# Altium footprint library Connector_JAE_WP7B.PcbLib: 20 footprints (part 1 of 2)
Each footprint in its own frame and in the unit in brackets; x right, y up, seen from the top. Pads: shape width x height; smd on the part's side, far side on the other; paste and mask are expansions set on the pad; w line width, h text height; cw(c..) or ccw(c..) is an arc to the next point about the centre after c.
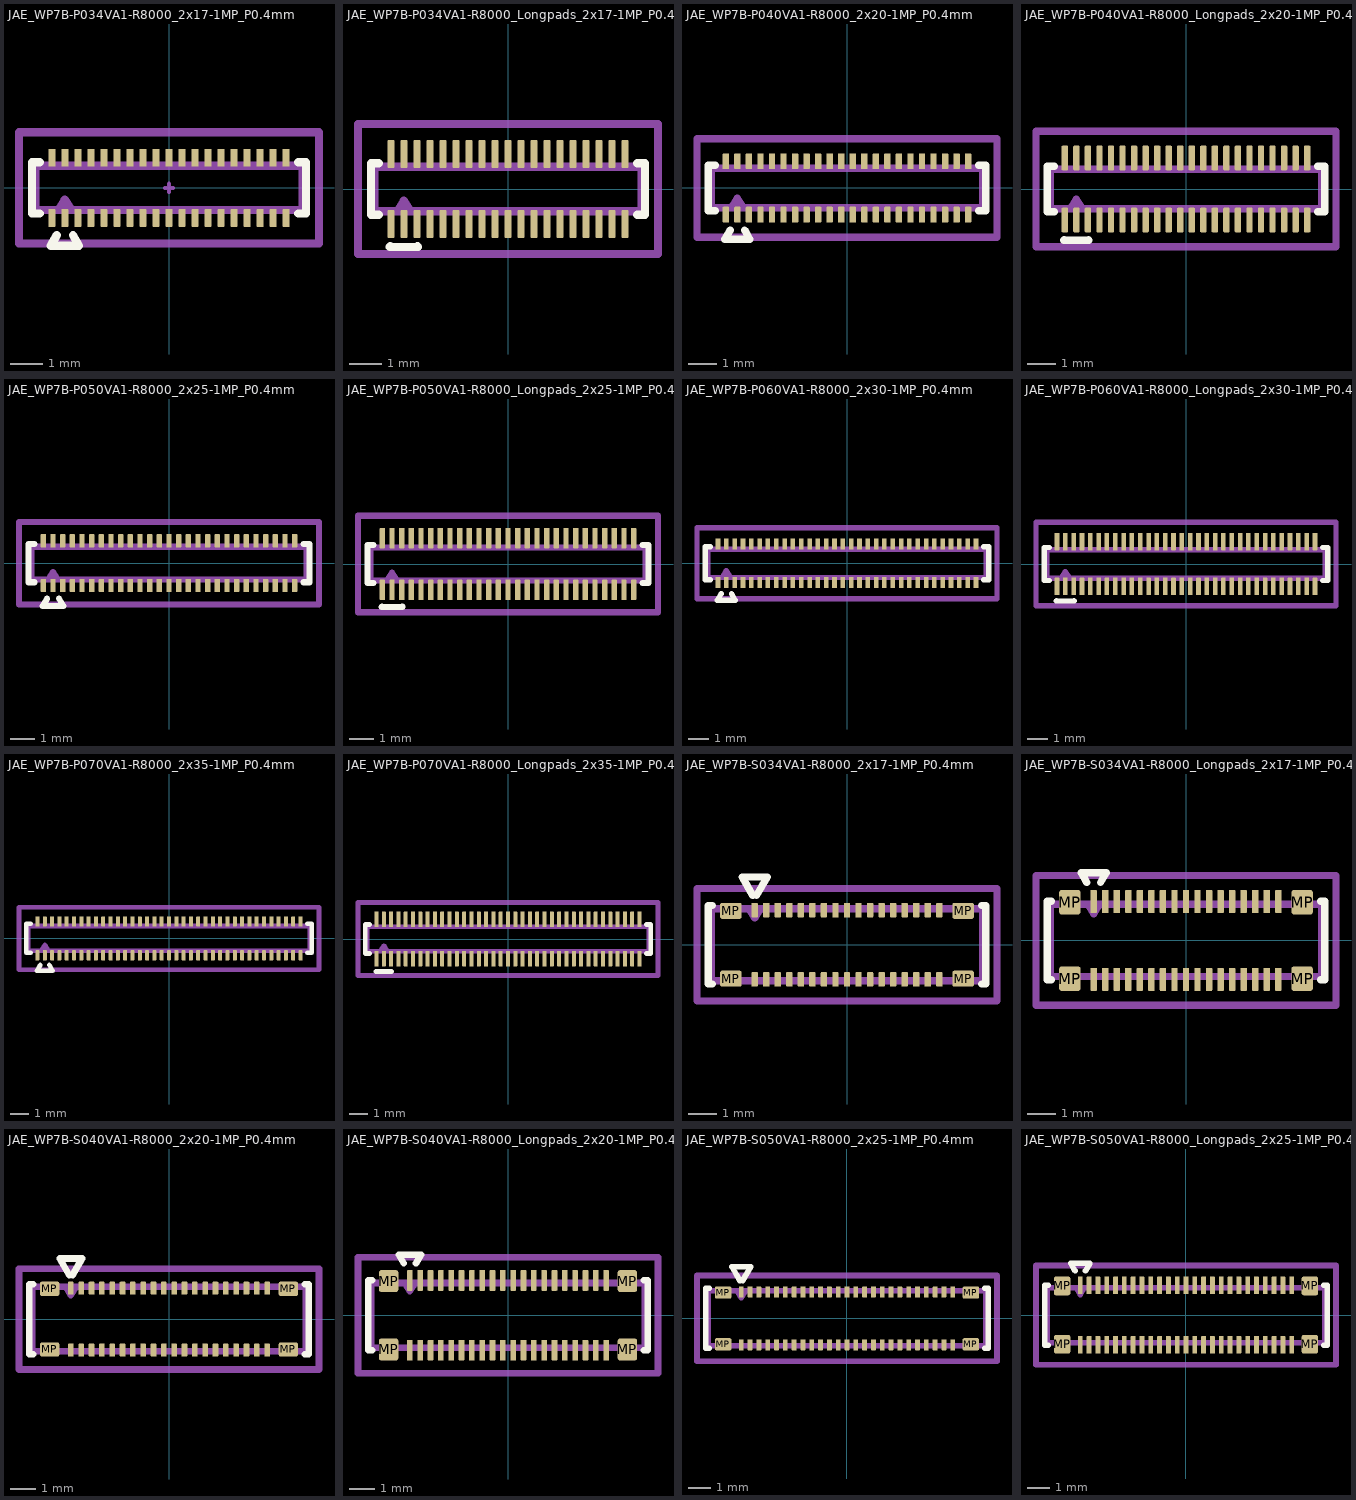
[diagram p0: the footprints below, top view; thin cyan lines are the x and y axes]

## JAE_WP7B-P034VA1-R8000_2x17-1MP_P0.4mm [mm]
pads (38):
  rrect25% 0.22x0.55 smd: 1(-3.2,-0.925) 2(-3.2,0.925) 3(-2.8,-0.925) 4(-2.8,0.925) 5(-2.4,-0.925) 6(-2.4,0.925) 7(-2,-0.925) 8(-2,0.925) 9(-1.6,-0.925) 10(-1.6,0.925) 11(-1.2,-0.925) 12(-1.2,0.925) 13(-0.8,-0.925) 14(-0.8,0.925) 15(-0.4,-0.925) 16(-0.4,0.925) 17(0,-0.925) 18(0,0.925) 19(0.4,-0.925) 20(0.4,0.925) 21(0.8,-0.925) 22(0.8,0.925) 23(1.2,-0.925) 24(1.2,0.925) 25(1.6,-0.925) 26(1.6,0.925) 27(2,-0.925) 28(2,0.925) 29(2.4,-0.925) 30(2.4,0.925) 31(2.8,-0.925) 32(2.8,0.925) 33(3.2,-0.925) 34(3.2,0.925) MP(-3.6,-0.925) MP(-3.6,0.925) MP(3.6,-0.925) MP(3.6,0.925)
F.SilkS:
  lines w0.254: -3.97,-0.79 -4.21,-0.79 -4.21,0.79 -3.97,0.79 ; -3.448,-1.46 -3.633,-1.78 -2.767,-1.78 -2.952,-1.46 ; 3.97,-0.79 4.21,-0.79 4.21,0.79 3.97,0.79
Top Component Center:
  lines w0.127: -0.127,0 0.127,0 ; 0,-0.127 0,0.127
Top Assembly:
  lines w0.254: -3.4,-0.68 -3.2,-0.36 -3,-0.68 ; -4.1,-0.68 4.1,-0.68 4.1,0.68 -4.1,0.68 -4.1,-0.68
  text "'.Designator'" at -4.047,-0.84 h1
Top Courtyard:
  lines w0.254: -4.61,-1.71 4.61,-1.71 4.61,1.71 -4.61,1.71 -4.61,-1.71
Top Designator:
  text ".Designator" at -7.618,-0.543 h1.52

## JAE_WP7B-P034VA1-R8000_Longpads_2x17-1MP_P0.4mm [mm]
pads (38):
  rrect25% 0.22x0.85 smd: 1(-3.2,-1.075) 2(-3.2,1.075) 3(-2.8,-1.075) 4(-2.8,1.075) 5(-2.4,-1.075) 6(-2.4,1.075) 7(-2,-1.075) 8(-2,1.075) 9(-1.6,-1.075) 10(-1.6,1.075) 11(-1.2,-1.075) 12(-1.2,1.075) 13(-0.8,-1.075) 14(-0.8,1.075) 15(-0.4,-1.075) 16(-0.4,1.075) 17(0,-1.075) 18(0,1.075) 19(0.4,-1.075) 20(0.4,1.075) 21(0.8,-1.075) 22(0.8,1.075) 23(1.2,-1.075) 24(1.2,1.075) 25(1.6,-1.075) 26(1.6,1.075) 27(2,-1.075) 28(2,1.075) 29(2.4,-1.075) 30(2.4,1.075) 31(2.8,-1.075) 32(2.8,1.075) 33(3.2,-1.075) 34(3.2,1.075) MP(-3.6,-1.075) MP(-3.6,1.075) MP(3.6,-1.075) MP(3.6,1.075)
F.SilkS:
  lines w0.254: -3.97,-0.79 -4.21,-0.79 -4.21,0.79 -3.97,0.79 ; -3.621,-1.76 -3.633,-1.78 -2.767,-1.78 -2.779,-1.76 ; 3.97,-0.79 4.21,-0.79 4.21,0.79 3.97,0.79
Top Assembly:
  lines w0.254: -3.4,-0.68 -3.2,-0.36 -3,-0.68 ; -4.1,-0.68 4.1,-0.68 4.1,0.68 -4.1,0.68 -4.1,-0.68
  text "'.Designator'" at -4.047,-0.84 h1
Top Courtyard:
  lines w0.254: -4.61,-2 4.61,-2 4.61,2 -4.61,2 -4.61,-2
Top Designator:
  text ".Designator" at -7.618,-0.508 h1.52

## JAE_WP7B-P040VA1-R8000_2x20-1MP_P0.4mm [mm]
pads (44):
  rrect25% 0.22x0.55 smd: 1(-3.8,-0.925) 2(-3.8,0.925) 3(-3.4,-0.925) 4(-3.4,0.925) 5(-3,-0.925) 6(-3,0.925) 7(-2.6,-0.925) 8(-2.6,0.925) 9(-2.2,-0.925) 10(-2.2,0.925) 11(-1.8,-0.925) 12(-1.8,0.925) 13(-1.4,-0.925) 14(-1.4,0.925) 15(-1,-0.925) 16(-1,0.925) 17(-0.6,-0.925) 18(-0.6,0.925) 19(-0.2,-0.925) 20(-0.2,0.925) 21(0.2,-0.925) 22(0.2,0.925) 23(0.6,-0.925) 24(0.6,0.925) 25(1,-0.925) 26(1,0.925) 27(1.4,-0.925) 28(1.4,0.925) 29(1.8,-0.925) 30(1.8,0.925) 31(2.2,-0.925) 32(2.2,0.925) 33(2.6,-0.925) 34(2.6,0.925) 35(3,-0.925) 36(3,0.925) 37(3.4,-0.925) 38(3.4,0.925) 39(3.8,-0.925) 40(3.8,0.925) MP(-4.2,-0.925) MP(-4.2,0.925) MP(4.2,-0.925) MP(4.2,0.925)
F.SilkS:
  lines w0.254: -4.57,-0.79 -4.81,-0.79 -4.81,0.79 -4.57,0.79 ; -4.048,-1.46 -4.233,-1.78 -3.367,-1.78 -3.552,-1.46 ; 4.57,-0.79 4.81,-0.79 4.81,0.79 4.57,0.79
Top Assembly:
  lines w0.254: -4,-0.68 -3.8,-0.36 -3.6,-0.68 ; -4.7,-0.68 4.7,-0.68 4.7,0.68 -4.7,0.68 -4.7,-0.68
  text "'.Designator'" at -4.047,-0.84 h1
Top Courtyard:
  lines w0.254: -5.2,-1.71 5.2,-1.71 5.2,1.71 -5.2,1.71 -5.2,-1.71
Top Designator:
  text ".Designator" at -7.618,-0.543 h1.52

## JAE_WP7B-P040VA1-R8000_Longpads_2x20-1MP_P0.4mm [mm]
pads (44):
  rrect25% 0.22x0.85 smd: 1(-3.8,-1.075) 2(-3.8,1.075) 3(-3.4,-1.075) 4(-3.4,1.075) 5(-3,-1.075) 6(-3,1.075) 7(-2.6,-1.075) 8(-2.6,1.075) 9(-2.2,-1.075) 10(-2.2,1.075) 11(-1.8,-1.075) 12(-1.8,1.075) 13(-1.4,-1.075) 14(-1.4,1.075) 15(-1,-1.075) 16(-1,1.075) 17(-0.6,-1.075) 18(-0.6,1.075) 19(-0.2,-1.075) 20(-0.2,1.075) 21(0.2,-1.075) 22(0.2,1.075) 23(0.6,-1.075) 24(0.6,1.075) 25(1,-1.075) 26(1,1.075) 27(1.4,-1.075) 28(1.4,1.075) 29(1.8,-1.075) 30(1.8,1.075) 31(2.2,-1.075) 32(2.2,1.075) 33(2.6,-1.075) 34(2.6,1.075) 35(3,-1.075) 36(3,1.075) 37(3.4,-1.075) 38(3.4,1.075) 39(3.8,-1.075) 40(3.8,1.075) MP(-4.2,-1.075) MP(-4.2,1.075) MP(4.2,-1.075) MP(4.2,1.075)
F.SilkS:
  lines w0.254: -4.57,-0.79 -4.81,-0.79 -4.81,0.79 -4.57,0.79 ; -4.221,-1.76 -4.233,-1.78 -3.367,-1.78 -3.379,-1.76 ; 4.57,-0.79 4.81,-0.79 4.81,0.79 4.57,0.79
Top Assembly:
  lines w0.254: -4,-0.68 -3.8,-0.36 -3.6,-0.68 ; -4.7,-0.68 4.7,-0.68 4.7,0.68 -4.7,0.68 -4.7,-0.68
  text "'.Designator'" at -4.047,-0.84 h1
Top Courtyard:
  lines w0.254: -5.2,-2 5.2,-2 5.2,2 -5.2,2 -5.2,-2
Top Designator:
  text ".Designator" at -7.618,-0.508 h1.52

## JAE_WP7B-P050VA1-R8000_2x25-1MP_P0.4mm [mm]
pads (54):
  rrect25% 0.22x0.55 smd: 1(-4.8,-0.925) 2(-4.8,0.925) 3(-4.4,-0.925) 4(-4.4,0.925) 5(-4,-0.925) 6(-4,0.925) 7(-3.6,-0.925) 8(-3.6,0.925) 9(-3.2,-0.925) 10(-3.2,0.925) 11(-2.8,-0.925) 12(-2.8,0.925) 13(-2.4,-0.925) 14(-2.4,0.925) 15(-2,-0.925) 16(-2,0.925) 17(-1.6,-0.925) 18(-1.6,0.925) 19(-1.2,-0.925) 20(-1.2,0.925) 21(-0.8,-0.925) 22(-0.8,0.925) 23(-0.4,-0.925) 24(-0.4,0.925) 25(0,-0.925) 26(0,0.925) 27(0.4,-0.925) 28(0.4,0.925) 29(0.8,-0.925) 30(0.8,0.925) 31(1.2,-0.925) 32(1.2,0.925) 33(1.6,-0.925) 34(1.6,0.925) 35(2,-0.925) 36(2,0.925) 37(2.4,-0.925) 38(2.4,0.925) 39(2.8,-0.925) 40(2.8,0.925) 41(3.2,-0.925) 42(3.2,0.925) 43(3.6,-0.925) 44(3.6,0.925) 45(4,-0.925) 46(4,0.925) 47(4.4,-0.925) 48(4.4,0.925) 49(4.8,-0.925) 50(4.8,0.925) MP(-5.2,-0.925) MP(-5.2,0.925) MP(5.2,-0.925) MP(5.2,0.925)
F.SilkS:
  lines w0.254: -5.57,-0.79 -5.81,-0.79 -5.81,0.79 -5.57,0.79 ; -5.048,-1.46 -5.233,-1.78 -4.367,-1.78 -4.552,-1.46 ; 5.57,-0.79 5.81,-0.79 5.81,0.79 5.57,0.79
Top Assembly:
  lines w0.254: -5,-0.68 -4.8,-0.36 -4.6,-0.68 ; -5.7,-0.68 5.7,-0.68 5.7,0.68 -5.7,0.68 -5.7,-0.68
  text "'.Designator'" at -4.047,-0.84 h1
Top Courtyard:
  lines w0.254: -6.21,-1.71 6.21,-1.71 6.21,1.71 -6.21,1.71 -6.21,-1.71
Top Designator:
  text ".Designator" at -7.618,-0.543 h1.52

## JAE_WP7B-P050VA1-R8000_Longpads_2x25-1MP_P0.4mm [mm]
pads (54):
  rrect25% 0.22x0.85 smd: 1(-4.8,-1.075) 2(-4.8,1.075) 3(-4.4,-1.075) 4(-4.4,1.075) 5(-4,-1.075) 6(-4,1.075) 7(-3.6,-1.075) 8(-3.6,1.075) 9(-3.2,-1.075) 10(-3.2,1.075) 11(-2.8,-1.075) 12(-2.8,1.075) 13(-2.4,-1.075) 14(-2.4,1.075) 15(-2,-1.075) 16(-2,1.075) 17(-1.6,-1.075) 18(-1.6,1.075) 19(-1.2,-1.075) 20(-1.2,1.075) 21(-0.8,-1.075) 22(-0.8,1.075) 23(-0.4,-1.075) 24(-0.4,1.075) 25(0,-1.075) 26(0,1.075) 27(0.4,-1.075) 28(0.4,1.075) 29(0.8,-1.075) 30(0.8,1.075) 31(1.2,-1.075) 32(1.2,1.075) 33(1.6,-1.075) 34(1.6,1.075) 35(2,-1.075) 36(2,1.075) 37(2.4,-1.075) 38(2.4,1.075) 39(2.8,-1.075) 40(2.8,1.075) 41(3.2,-1.075) 42(3.2,1.075) 43(3.6,-1.075) 44(3.6,1.075) 45(4,-1.075) 46(4,1.075) 47(4.4,-1.075) 48(4.4,1.075) 49(4.8,-1.075) 50(4.8,1.075) MP(-5.2,-1.075) MP(-5.2,1.075) MP(5.2,-1.075) MP(5.2,1.075)
F.SilkS:
  lines w0.254: -5.57,-0.79 -5.81,-0.79 -5.81,0.79 -5.57,0.79 ; -5.221,-1.76 -5.233,-1.78 -4.367,-1.78 -4.379,-1.76 ; 5.57,-0.79 5.81,-0.79 5.81,0.79 5.57,0.79
Top Assembly:
  lines w0.254: -5,-0.68 -4.8,-0.36 -4.6,-0.68 ; -5.7,-0.68 5.7,-0.68 5.7,0.68 -5.7,0.68 -5.7,-0.68
  text "'.Designator'" at -4.047,-0.84 h1
Top Courtyard:
  lines w0.254: -6.21,-2 6.21,-2 6.21,2 -6.21,2 -6.21,-2
Top Designator:
  text ".Designator" at -7.618,-0.508 h1.52

## JAE_WP7B-P060VA1-R8000_2x30-1MP_P0.4mm [mm]
pads (64):
  rrect25% 0.22x0.55 smd: 1(-5.8,-0.925) 2(-5.8,0.925) 3(-5.4,-0.925) 4(-5.4,0.925) 5(-5,-0.925) 6(-5,0.925) 7(-4.6,-0.925) 8(-4.6,0.925) 9(-4.2,-0.925) 10(-4.2,0.925) 11(-3.8,-0.925) 12(-3.8,0.925) 13(-3.4,-0.925) 14(-3.4,0.925) 15(-3,-0.925) 16(-3,0.925) 17(-2.6,-0.925) 18(-2.6,0.925) 19(-2.2,-0.925) 20(-2.2,0.925) 21(-1.8,-0.925) 22(-1.8,0.925) 23(-1.4,-0.925) 24(-1.4,0.925) 25(-1,-0.925) 26(-1,0.925) 27(-0.6,-0.925) 28(-0.6,0.925) 29(-0.2,-0.925) 30(-0.2,0.925) 31(0.2,-0.925) 32(0.2,0.925) 33(0.6,-0.925) 34(0.6,0.925) 35(1,-0.925) 36(1,0.925) 37(1.4,-0.925) 38(1.4,0.925) 39(1.8,-0.925) 40(1.8,0.925) 41(2.2,-0.925) 42(2.2,0.925) 43(2.6,-0.925) 44(2.6,0.925) 45(3,-0.925) 46(3,0.925) 47(3.4,-0.925) 48(3.4,0.925) 49(3.8,-0.925) 50(3.8,0.925) 51(4.2,-0.925) 52(4.2,0.925) 53(4.6,-0.925) 54(4.6,0.925) 55(5,-0.925) 56(5,0.925) 57(5.4,-0.925) 58(5.4,0.925) 59(5.8,-0.925) 60(5.8,0.925) MP(-6.2,-0.925) MP(-6.2,0.925) MP(6.2,-0.925) MP(6.2,0.925)
F.SilkS:
  lines w0.254: -6.57,-0.79 -6.81,-0.79 -6.81,0.79 -6.57,0.79 ; -6.048,-1.46 -6.233,-1.78 -5.367,-1.78 -5.552,-1.46 ; 6.57,-0.79 6.81,-0.79 6.81,0.79 6.57,0.79
Top Assembly:
  lines w0.254: -6,-0.68 -5.8,-0.36 -5.6,-0.68 ; -6.7,-0.68 6.7,-0.68 6.7,0.68 -6.7,0.68 -6.7,-0.68
  text "'.Designator'" at -4.047,-0.84 h1
Top Courtyard:
  lines w0.254: -7.21,-1.71 7.21,-1.71 7.21,1.71 -7.21,1.71 -7.21,-1.71
Top Designator:
  text ".Designator" at -7.618,-0.543 h1.52

## JAE_WP7B-P060VA1-R8000_Longpads_2x30-1MP_P0.4mm [mm]
pads (64):
  rrect25% 0.22x0.85 smd: 1(-5.8,-1.075) 2(-5.8,1.075) 3(-5.4,-1.075) 4(-5.4,1.075) 5(-5,-1.075) 6(-5,1.075) 7(-4.6,-1.075) 8(-4.6,1.075) 9(-4.2,-1.075) 10(-4.2,1.075) 11(-3.8,-1.075) 12(-3.8,1.075) 13(-3.4,-1.075) 14(-3.4,1.075) 15(-3,-1.075) 16(-3,1.075) 17(-2.6,-1.075) 18(-2.6,1.075) 19(-2.2,-1.075) 20(-2.2,1.075) 21(-1.8,-1.075) 22(-1.8,1.075) 23(-1.4,-1.075) 24(-1.4,1.075) 25(-1,-1.075) 26(-1,1.075) 27(-0.6,-1.075) 28(-0.6,1.075) 29(-0.2,-1.075) 30(-0.2,1.075) 31(0.2,-1.075) 32(0.2,1.075) 33(0.6,-1.075) 34(0.6,1.075) 35(1,-1.075) 36(1,1.075) 37(1.4,-1.075) 38(1.4,1.075) 39(1.8,-1.075) 40(1.8,1.075) 41(2.2,-1.075) 42(2.2,1.075) 43(2.6,-1.075) 44(2.6,1.075) 45(3,-1.075) 46(3,1.075) 47(3.4,-1.075) 48(3.4,1.075) 49(3.8,-1.075) 50(3.8,1.075) 51(4.2,-1.075) 52(4.2,1.075) 53(4.6,-1.075) 54(4.6,1.075) 55(5,-1.075) 56(5,1.075) 57(5.4,-1.075) 58(5.4,1.075) 59(5.8,-1.075) 60(5.8,1.075) MP(-6.2,-1.075) MP(-6.2,1.075) MP(6.2,-1.075) MP(6.2,1.075)
F.SilkS:
  lines w0.254: -6.57,-0.79 -6.81,-0.79 -6.81,0.79 -6.57,0.79 ; -6.221,-1.76 -6.233,-1.78 -5.367,-1.78 -5.379,-1.76 ; 6.57,-0.79 6.81,-0.79 6.81,0.79 6.57,0.79
Top Assembly:
  lines w0.254: -6,-0.68 -5.8,-0.36 -5.6,-0.68 ; -6.7,-0.68 6.7,-0.68 6.7,0.68 -6.7,0.68 -6.7,-0.68
  text "'.Designator'" at -4.047,-0.84 h1
Top Courtyard:
  lines w0.254: -7.21,-2 7.21,-2 7.21,2 -7.21,2 -7.21,-2
Top Designator:
  text ".Designator" at -7.618,-0.508 h1.52

## JAE_WP7B-P070VA1-R8000_2x35-1MP_P0.4mm [mm]
pads (74):
  rrect25% 0.22x0.55 smd: 1(-6.8,-0.925) 2(-6.8,0.925) 3(-6.4,-0.925) 4(-6.4,0.925) 5(-6,-0.925) 6(-6,0.925) 7(-5.6,-0.925) 8(-5.6,0.925) 9(-5.2,-0.925) 10(-5.2,0.925) 11(-4.8,-0.925) 12(-4.8,0.925) 13(-4.4,-0.925) 14(-4.4,0.925) 15(-4,-0.925) 16(-4,0.925) 17(-3.6,-0.925) 18(-3.6,0.925) 19(-3.2,-0.925) 20(-3.2,0.925) 21(-2.8,-0.925) 22(-2.8,0.925) 23(-2.4,-0.925) 24(-2.4,0.925) 25(-2,-0.925) 26(-2,0.925) 27(-1.6,-0.925) 28(-1.6,0.925) 29(-1.2,-0.925) 30(-1.2,0.925) 31(-0.8,-0.925) 32(-0.8,0.925) 33(-0.4,-0.925) 34(-0.4,0.925) 35(0,-0.925) 36(0,0.925) 37(0.4,-0.925) 38(0.4,0.925) 39(0.8,-0.925) 40(0.8,0.925) 41(1.2,-0.925) 42(1.2,0.925) 43(1.6,-0.925) 44(1.6,0.925) 45(2,-0.925) 46(2,0.925) 47(2.4,-0.925) 48(2.4,0.925) 49(2.8,-0.925) 50(2.8,0.925) 51(3.2,-0.925) 52(3.2,0.925) 53(3.6,-0.925) 54(3.6,0.925) 55(4,-0.925) 56(4,0.925) 57(4.4,-0.925) 58(4.4,0.925) 59(4.8,-0.925) 60(4.8,0.925) 61(5.2,-0.925) 62(5.2,0.925) 63(5.6,-0.925) 64(5.6,0.925) 65(6,-0.925) 66(6,0.925) 67(6.4,-0.925) 68(6.4,0.925) 69(6.8,-0.925) 70(6.8,0.925) MP(-7.2,-0.925) MP(-7.2,0.925) MP(7.2,-0.925) MP(7.2,0.925)
F.SilkS:
  lines w0.254: -7.57,-0.79 -7.81,-0.79 -7.81,0.79 -7.57,0.79 ; -7.048,-1.46 -7.233,-1.78 -6.367,-1.78 -6.552,-1.46 ; 7.57,-0.79 7.81,-0.79 7.81,0.79 7.57,0.79
Top Assembly:
  lines w0.254: -7,-0.68 -6.8,-0.36 -6.6,-0.68 ; -7.7,-0.68 7.7,-0.68 7.7,0.68 -7.7,0.68 -7.7,-0.68
  text "'.Designator'" at -4.047,-0.84 h1
Top Courtyard:
  lines w0.254: -8.21,-1.71 8.21,-1.71 8.21,1.71 -8.21,1.71 -8.21,-1.71
Top Designator:
  text ".Designator" at -7.618,-0.543 h1.52

## JAE_WP7B-P070VA1-R8000_Longpads_2x35-1MP_P0.4mm [mm]
pads (74):
  rrect25% 0.22x0.85 smd: 1(-6.8,-1.075) 2(-6.8,1.075) 3(-6.4,-1.075) 4(-6.4,1.075) 5(-6,-1.075) 6(-6,1.075) 7(-5.6,-1.075) 8(-5.6,1.075) 9(-5.2,-1.075) 10(-5.2,1.075) 11(-4.8,-1.075) 12(-4.8,1.075) 13(-4.4,-1.075) 14(-4.4,1.075) 15(-4,-1.075) 16(-4,1.075) 17(-3.6,-1.075) 18(-3.6,1.075) 19(-3.2,-1.075) 20(-3.2,1.075) 21(-2.8,-1.075) 22(-2.8,1.075) 23(-2.4,-1.075) 24(-2.4,1.075) 25(-2,-1.075) 26(-2,1.075) 27(-1.6,-1.075) 28(-1.6,1.075) 29(-1.2,-1.075) 30(-1.2,1.075) 31(-0.8,-1.075) 32(-0.8,1.075) 33(-0.4,-1.075) 34(-0.4,1.075) 35(0,-1.075) 36(0,1.075) 37(0.4,-1.075) 38(0.4,1.075) 39(0.8,-1.075) 40(0.8,1.075) 41(1.2,-1.075) 42(1.2,1.075) 43(1.6,-1.075) 44(1.6,1.075) 45(2,-1.075) 46(2,1.075) 47(2.4,-1.075) 48(2.4,1.075) 49(2.8,-1.075) 50(2.8,1.075) 51(3.2,-1.075) 52(3.2,1.075) 53(3.6,-1.075) 54(3.6,1.075) 55(4,-1.075) 56(4,1.075) 57(4.4,-1.075) 58(4.4,1.075) 59(4.8,-1.075) 60(4.8,1.075) 61(5.2,-1.075) 62(5.2,1.075) 63(5.6,-1.075) 64(5.6,1.075) 65(6,-1.075) 66(6,1.075) 67(6.4,-1.075) 68(6.4,1.075) 69(6.8,-1.075) 70(6.8,1.075) MP(-7.2,-1.075) MP(-7.2,1.075) MP(7.2,-1.075) MP(7.2,1.075)
F.SilkS:
  lines w0.254: -7.57,-0.79 -7.81,-0.79 -7.81,0.79 -7.57,0.79 ; -7.221,-1.76 -7.233,-1.78 -6.367,-1.78 -6.379,-1.76 ; 7.57,-0.79 7.81,-0.79 7.81,0.79 7.57,0.79
Top Assembly:
  lines w0.254: -7,-0.68 -6.8,-0.36 -6.6,-0.68 ; -7.7,-0.68 7.7,-0.68 7.7,0.68 -7.7,0.68 -7.7,-0.68
  text "'.Designator'" at -4.047,-0.84 h1
Top Courtyard:
  lines w0.254: -8.21,-2 8.21,-2 8.21,2 -8.21,2 -8.21,-2
Top Designator:
  text ".Designator" at -7.618,-0.508 h1.52

## JAE_WP7B-S034VA1-R8000_2x17-1MP_P0.4mm [mm]
pads (38):
  rrect25% 0.22x0.5 smd: 1(-3.2,1.2) 2(-3.2,-1.2) 3(-2.8,1.2) 4(-2.8,-1.2) 5(-2.4,1.2) 6(-2.4,-1.2) 7(-2,1.2) 8(-2,-1.2) 9(-1.6,1.2) 10(-1.6,-1.2) 11(-1.2,1.2) 12(-1.2,-1.2) 13(-0.8,1.2) 14(-0.8,-1.2) 15(-0.4,1.2) 16(-0.4,-1.2) 17(0,1.2) 18(0,-1.2) 19(0.4,1.2) 20(0.4,-1.2) 21(0.8,1.2) 22(0.8,-1.2) 23(1.2,1.2) 24(1.2,-1.2) 25(1.6,1.2) 26(1.6,-1.2) 27(2,1.2) 28(2,-1.2) 29(2.4,1.2) 30(2.4,-1.2) 31(2.8,1.2) 32(2.8,-1.2) 33(3.2,1.2) 34(3.2,-1.2)
  rrect25% 0.75x0.55 smd: MP(-4.025,-1.175) MP(-4.025,1.175) MP(4.025,-1.175) MP(4.025,1.175)
F.SilkS:
  lines w0.254: -4.66,-1.36 -4.81,-1.36 -4.81,1.36 -4.66,1.36 ; -3.264,1.71 -3.633,2.35 -2.767,2.35 -3.136,1.71 ; 4.66,-1.36 4.81,-1.36 4.81,1.36 4.66,1.36
Top Assembly:
  lines w0.254: -3.4,1.25 -3.2,0.93 -3,1.25 ; -4.7,-1.25 4.7,-1.25 4.7,1.25 -4.7,1.25 -4.7,-1.25
  text "'.Designator'" at -4.047,-0.84 h1
Top Courtyard:
  lines w0.254: -5.2,-1.95 5.2,-1.95 5.2,1.95 -5.2,1.95 -5.2,-1.95
Top Designator:
  text ".Designator" at -7.618,-0.308 h1.52

## JAE_WP7B-S034VA1-R8000_Longpads_2x17-1MP_P0.4mm [mm]
pads (38):
  rrect25% 0.22x0.8 smd: 1(-3.2,1.35) 2(-3.2,-1.35) 3(-2.8,1.35) 4(-2.8,-1.35) 5(-2.4,1.35) 6(-2.4,-1.35) 7(-2,1.35) 8(-2,-1.35) 9(-1.6,1.35) 10(-1.6,-1.35) 11(-1.2,1.35) 12(-1.2,-1.35) 13(-0.8,1.35) 14(-0.8,-1.35) 15(-0.4,1.35) 16(-0.4,-1.35) 17(0,1.35) 18(0,-1.35) 19(0.4,1.35) 20(0.4,-1.35) 21(0.8,1.35) 22(0.8,-1.35) 23(1.2,1.35) 24(1.2,-1.35) 25(1.6,1.35) 26(1.6,-1.35) 27(2,1.35) 28(2,-1.35) 29(2.4,1.35) 30(2.4,-1.35) 31(2.8,1.35) 32(2.8,-1.35) 33(3.2,1.35) 34(3.2,-1.35)
  rrect25% 0.75x0.85 smd: MP(-4.025,-1.325) MP(-4.025,1.325) MP(4.025,-1.325) MP(4.025,1.325)
F.SilkS:
  lines w0.254: -4.66,-1.36 -4.81,-1.36 -4.81,1.36 -4.66,1.36 ; -3.437,2.01 -3.633,2.35 -2.767,2.35 -2.963,2.01 ; 4.66,-1.36 4.81,-1.36 4.81,1.36 4.66,1.36
Top Assembly:
  lines w0.254: -3.4,1.25 -3.2,0.93 -3,1.25 ; -4.7,-1.25 4.7,-1.25 4.7,1.25 -4.7,1.25 -4.7,-1.25
  text "'.Designator'" at -4.047,-0.84 h1
Top Courtyard:
  lines w0.254: -5.2,-2.25 5.2,-2.25 5.2,2.25 -5.2,2.25 -5.2,-2.25
Top Designator:
  text ".Designator" at -7.618,-0.458 h1.52

## JAE_WP7B-S040VA1-R8000_2x20-1MP_P0.4mm [mm]
pads (44):
  rrect25% 0.22x0.5 smd: 1(-3.8,1.2) 2(-3.8,-1.2) 3(-3.4,1.2) 4(-3.4,-1.2) 5(-3,1.2) 6(-3,-1.2) 7(-2.6,1.2) 8(-2.6,-1.2) 9(-2.2,1.2) 10(-2.2,-1.2) 11(-1.8,1.2) 12(-1.8,-1.2) 13(-1.4,1.2) 14(-1.4,-1.2) 15(-1,1.2) 16(-1,-1.2) 17(-0.6,1.2) 18(-0.6,-1.2) 19(-0.2,1.2) 20(-0.2,-1.2) 21(0.2,1.2) 22(0.2,-1.2) 23(0.6,1.2) 24(0.6,-1.2) 25(1,1.2) 26(1,-1.2) 27(1.4,1.2) 28(1.4,-1.2) 29(1.8,1.2) 30(1.8,-1.2) 31(2.2,1.2) 32(2.2,-1.2) 33(2.6,1.2) 34(2.6,-1.2) 35(3,1.2) 36(3,-1.2) 37(3.4,1.2) 38(3.4,-1.2) 39(3.8,1.2) 40(3.8,-1.2)
  rrect25% 0.75x0.55 smd: MP(-4.625,-1.175) MP(-4.625,1.175) MP(4.625,-1.175) MP(4.625,1.175)
F.SilkS:
  lines w0.254: -5.26,-1.36 -5.41,-1.36 -5.41,1.36 -5.26,1.36 ; -3.864,1.71 -4.233,2.35 -3.367,2.35 -3.736,1.71 ; 5.26,-1.36 5.41,-1.36 5.41,1.36 5.26,1.36
Top Assembly:
  lines w0.254: -4,1.25 -3.8,0.93 -3.6,1.25 ; -5.3,-1.25 5.3,-1.25 5.3,1.25 -5.3,1.25 -5.3,-1.25
  text "'.Designator'" at -4.047,-0.84 h1
Top Courtyard:
  lines w0.254: -5.81,-1.95 5.81,-1.95 5.81,1.95 -5.81,1.95 -5.81,-1.95
Top Designator:
  text ".Designator" at -7.618,-0.308 h1.52

## JAE_WP7B-S040VA1-R8000_Longpads_2x20-1MP_P0.4mm [mm]
pads (44):
  rrect25% 0.22x0.8 smd: 1(-3.8,1.35) 2(-3.8,-1.35) 3(-3.4,1.35) 4(-3.4,-1.35) 5(-3,1.35) 6(-3,-1.35) 7(-2.6,1.35) 8(-2.6,-1.35) 9(-2.2,1.35) 10(-2.2,-1.35) 11(-1.8,1.35) 12(-1.8,-1.35) 13(-1.4,1.35) 14(-1.4,-1.35) 15(-1,1.35) 16(-1,-1.35) 17(-0.6,1.35) 18(-0.6,-1.35) 19(-0.2,1.35) 20(-0.2,-1.35) 21(0.2,1.35) 22(0.2,-1.35) 23(0.6,1.35) 24(0.6,-1.35) 25(1,1.35) 26(1,-1.35) 27(1.4,1.35) 28(1.4,-1.35) 29(1.8,1.35) 30(1.8,-1.35) 31(2.2,1.35) 32(2.2,-1.35) 33(2.6,1.35) 34(2.6,-1.35) 35(3,1.35) 36(3,-1.35) 37(3.4,1.35) 38(3.4,-1.35) 39(3.8,1.35) 40(3.8,-1.35)
  rrect25% 0.75x0.85 smd: MP(-4.625,-1.325) MP(-4.625,1.325) MP(4.625,-1.325) MP(4.625,1.325)
F.SilkS:
  lines w0.254: -5.26,-1.36 -5.41,-1.36 -5.41,1.36 -5.26,1.36 ; -4.037,2.01 -4.233,2.35 -3.367,2.35 -3.563,2.01 ; 5.26,-1.36 5.41,-1.36 5.41,1.36 5.26,1.36
Top Assembly:
  lines w0.254: -4,1.25 -3.8,0.93 -3.6,1.25 ; -5.3,-1.25 5.3,-1.25 5.3,1.25 -5.3,1.25 -5.3,-1.25
  text "'.Designator'" at -4.047,-0.84 h1
Top Courtyard:
  lines w0.254: -5.81,-2.25 5.81,-2.25 5.81,2.25 -5.81,2.25 -5.81,-2.25
Top Designator:
  text ".Designator" at -7.618,-0.458 h1.52

## JAE_WP7B-S050VA1-R8000_2x25-1MP_P0.4mm [mm]
pads (54):
  rrect25% 0.22x0.5 smd: 1(-4.8,1.2) 2(-4.8,-1.2) 3(-4.4,1.2) 4(-4.4,-1.2) 5(-4,1.2) 6(-4,-1.2) 7(-3.6,1.2) 8(-3.6,-1.2) 9(-3.2,1.2) 10(-3.2,-1.2) 11(-2.8,1.2) 12(-2.8,-1.2) 13(-2.4,1.2) 14(-2.4,-1.2) 15(-2,1.2) 16(-2,-1.2) 17(-1.6,1.2) 18(-1.6,-1.2) 19(-1.2,1.2) 20(-1.2,-1.2) 21(-0.8,1.2) 22(-0.8,-1.2) 23(-0.4,1.2) 24(-0.4,-1.2) 25(0,1.2) 26(0,-1.2) 27(0.4,1.2) 28(0.4,-1.2) 29(0.8,1.2) 30(0.8,-1.2) 31(1.2,1.2) 32(1.2,-1.2) 33(1.6,1.2) 34(1.6,-1.2) 35(2,1.2) 36(2,-1.2) 37(2.4,1.2) 38(2.4,-1.2) 39(2.8,1.2) 40(2.8,-1.2) 41(3.2,1.2) 42(3.2,-1.2) 43(3.6,1.2) 44(3.6,-1.2) 45(4,1.2) 46(4,-1.2) 47(4.4,1.2) 48(4.4,-1.2) 49(4.8,1.2) 50(4.8,-1.2)
  rrect25% 0.75x0.55 smd: MP(-5.625,-1.175) MP(-5.625,1.175) MP(5.625,-1.175) MP(5.625,1.175)
F.SilkS:
  lines w0.254: -6.26,-1.36 -6.41,-1.36 -6.41,1.36 -6.26,1.36 ; -4.864,1.71 -5.233,2.35 -4.367,2.35 -4.736,1.71 ; 6.26,-1.36 6.41,-1.36 6.41,1.36 6.26,1.36
Top Assembly:
  lines w0.254: -5,1.25 -4.8,0.93 -4.6,1.25 ; -6.3,-1.25 6.3,-1.25 6.3,1.25 -6.3,1.25 -6.3,-1.25
  text "'.Designator'" at -4.047,-0.84 h1
Top Courtyard:
  lines w0.254: -6.81,-1.95 6.81,-1.95 6.81,1.95 -6.81,1.95 -6.81,-1.95
Top Designator:
  text ".Designator" at -7.618,-0.308 h1.52

## JAE_WP7B-S050VA1-R8000_Longpads_2x25-1MP_P0.4mm [mm]
pads (54):
  rrect25% 0.22x0.8 smd: 1(-4.8,1.35) 2(-4.8,-1.35) 3(-4.4,1.35) 4(-4.4,-1.35) 5(-4,1.35) 6(-4,-1.35) 7(-3.6,1.35) 8(-3.6,-1.35) 9(-3.2,1.35) 10(-3.2,-1.35) 11(-2.8,1.35) 12(-2.8,-1.35) 13(-2.4,1.35) 14(-2.4,-1.35) 15(-2,1.35) 16(-2,-1.35) 17(-1.6,1.35) 18(-1.6,-1.35) 19(-1.2,1.35) 20(-1.2,-1.35) 21(-0.8,1.35) 22(-0.8,-1.35) 23(-0.4,1.35) 24(-0.4,-1.35) 25(0,1.35) 26(0,-1.35) 27(0.4,1.35) 28(0.4,-1.35) 29(0.8,1.35) 30(0.8,-1.35) 31(1.2,1.35) 32(1.2,-1.35) 33(1.6,1.35) 34(1.6,-1.35) 35(2,1.35) 36(2,-1.35) 37(2.4,1.35) 38(2.4,-1.35) 39(2.8,1.35) 40(2.8,-1.35) 41(3.2,1.35) 42(3.2,-1.35) 43(3.6,1.35) 44(3.6,-1.35) 45(4,1.35) 46(4,-1.35) 47(4.4,1.35) 48(4.4,-1.35) 49(4.8,1.35) 50(4.8,-1.35)
  rrect25% 0.75x0.85 smd: MP(-5.625,-1.325) MP(-5.625,1.325) MP(5.625,-1.325) MP(5.625,1.325)
F.SilkS:
  lines w0.254: -6.26,-1.36 -6.41,-1.36 -6.41,1.36 -6.26,1.36 ; -5.037,2.01 -5.233,2.35 -4.367,2.35 -4.563,2.01 ; 6.26,-1.36 6.41,-1.36 6.41,1.36 6.26,1.36
Top Assembly:
  lines w0.254: -5,1.25 -4.8,0.93 -4.6,1.25 ; -6.3,-1.25 6.3,-1.25 6.3,1.25 -6.3,1.25 -6.3,-1.25
  text "'.Designator'" at -4.047,-0.84 h1
Top Courtyard:
  lines w0.254: -6.81,-2.25 6.81,-2.25 6.81,2.25 -6.81,2.25 -6.81,-2.25
Top Designator:
  text ".Designator" at -7.618,-0.458 h1.52